# Altium integrated library Linear Technology Power Management LDO Linear Regulators.IntLib: 2339 symbols (part 4 of 131)
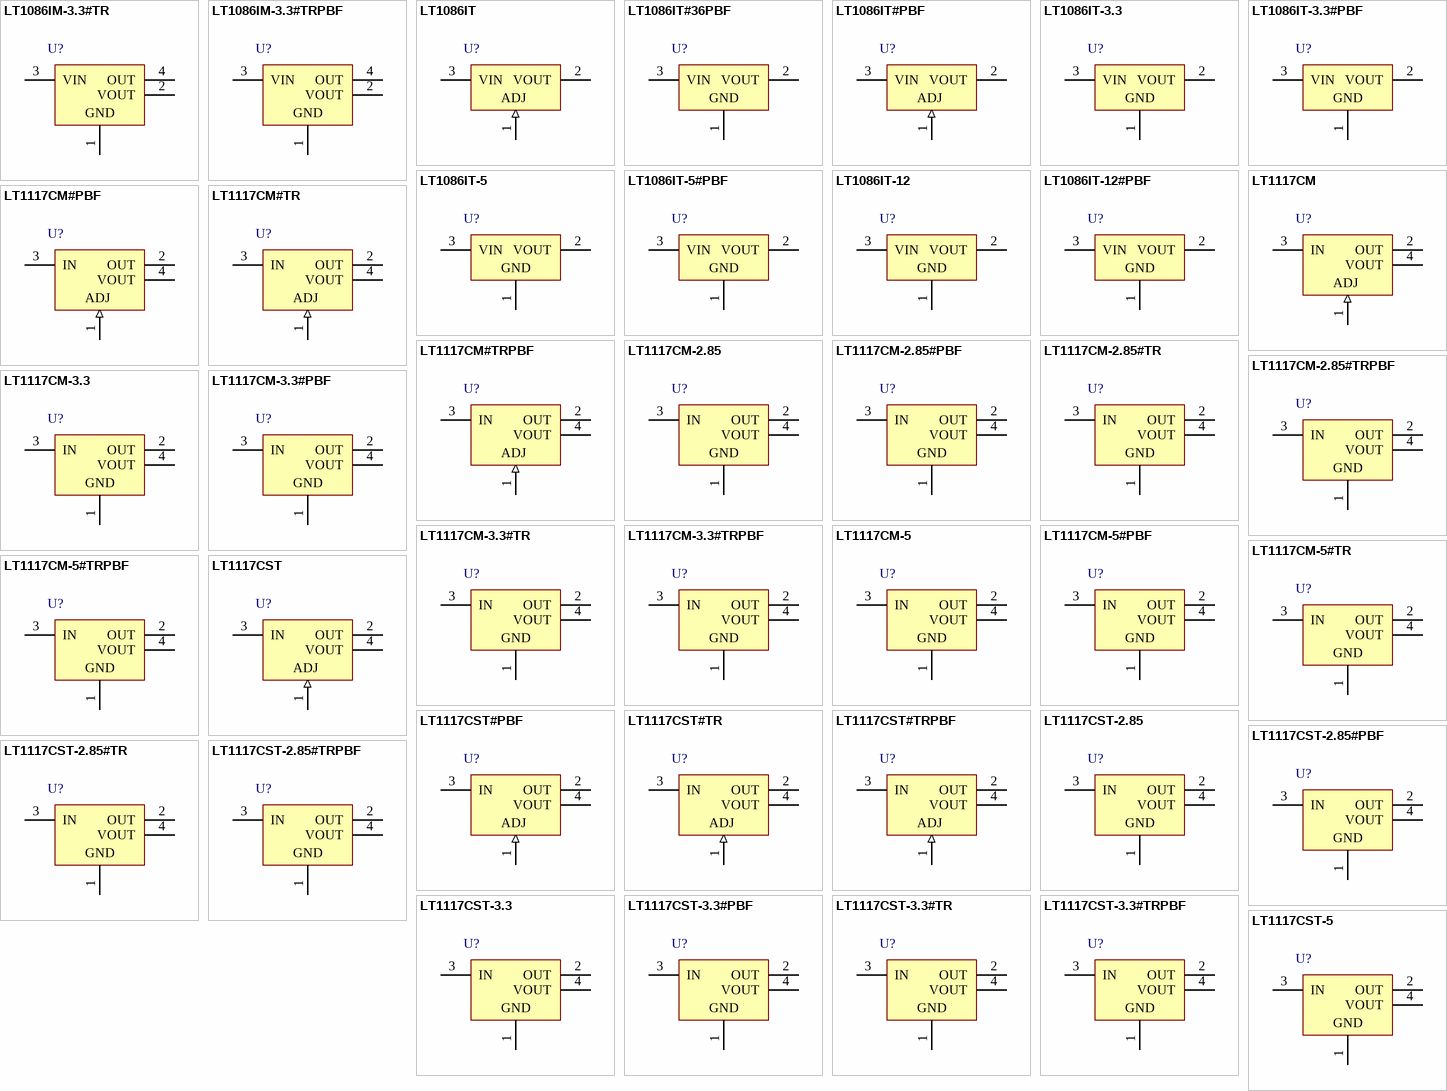
[diagram p72: symbols LT1086IM-3.3#TR to LT1117CST-5]

## LT1117CST-3.3#TR
designator U?
0.8 A Low Dropout Positive Regulator, 2.45 to 15 V Vin, 3.3 V Vout, 3-pin SOT223 (ST-3), 0 to 125 degC, Tape and Reel; Manufacturer: Linear Technology; PartNumber: LT1117CST-3.3#TR; Discrete Pass Element: no; Dropout Voltage(V): 1.1; Iout(mA): 800; Isupply(mA): 5; Number of Outputs: 1; Output Voltage: 3.3 V; PSRR(dB): 75; Vin Max(V): 15; Vin Min(V): 2.45; DatasheetVersion: Rev. D; PackageVersion: Jun-10; PackageReference: ST-3; PackageDescription: 3-Pin Plastic SOT-223, 3.505 x 6.505 mm Body, Pitch 2.3 mm; Supplier 1: Digi-Key; Supplier Part Number 1: LT1117CST-3.3#TR-ND; Supplier 2: Newark; Supplier Part Number 2: 57M1799; Packing: Tape and Reel; RoHS: FALSE; Mounting Technology: Surface Mount; ComponentLink1Description: Manufacturer URL; ComponentLink1URL: http://www.linear.com/; ComponentLink2Description: Datasheet; ComponentLink2URL: http://cds.linear.com/docs/en/datasheet/1117fd.pdf; ComponentLink3Description: Package Specification; ComponentLink3URL: http://cds.linear.com/docs/en/packaging/SOT_3_05-08-1630.pdf
footprint LT-ST-3-SOT-223_N (SOT223, 4-Leads, Body 6.505x3.505mm, Pitch 2.3mm, IPC Medium Density)
footprint LT-ST-3-SOT-223_L (SOT223, 4-Leads, Body 6.505x3.505mm, Pitch 2.3mm, IPC High Density)
footprint LT-ST-3-SOT-223_M (SOT223, 4-Leads, Body 6.505x3.505mm, Pitch 2.3mm, IPC Low Density)
pins: 1 GND (power), 2 OUT (power), 3 IN (power), 4 VOUT (power)

## LT1117CST-3.3#TRPBF
designator U?
0.8 A Low Dropout Positive Regulator, 2.45 to 15 V Vin, 3.3 V Vout, 3-pin SOT223 (ST-3), 0 to 125 degC, Pb-Free, Tape and Reel; Manufacturer: Linear Technology; PartNumber: LT1117CST-3.3#TRPBF; Discrete Pass Element: no; Dropout Voltage(V): 1.1; Iout(mA): 800; Isupply(mA): 5; Number of Outputs: 1; Output Voltage: 3.3 V; PSRR(dB): 75; Vin Max(V): 15; Vin Min(V): 2.45; DatasheetVersion: Rev. D; PackageVersion: Jun-10; PackageReference: ST-3; PackageDescription: 3-Pin Plastic SOT-223, 3.505 x 6.505 mm Body, Pitch 2.3 mm; Supplier 1: Digi-Key; Supplier Part Number 1: LT1117CST-3.3#TRPBF-ND; Supplier 2: Newark; Supplier Part Number 2: 57M1800; Packing: Tape and Reel; RoHS: TRUE; Mounting Technology: Surface Mount; ComponentLink1Description: Manufacturer URL; ComponentLink1URL: http://www.linear.com/; ComponentLink2Description: Datasheet; ComponentLink2URL: http://cds.linear.com/docs/en/datasheet/1117fd.pdf; ComponentLink3Description: Package Specification; ComponentLink3URL: http://cds.linear.com/docs/en/packaging/SOT_3_05-08-1630.pdf
footprint LT-ST-3-SOT-223_N (SOT223, 4-Leads, Body 6.505x3.505mm, Pitch 2.3mm, IPC Medium Density)
footprint LT-ST-3-SOT-223_L (SOT223, 4-Leads, Body 6.505x3.505mm, Pitch 2.3mm, IPC High Density)
footprint LT-ST-3-SOT-223_M (SOT223, 4-Leads, Body 6.505x3.505mm, Pitch 2.3mm, IPC Low Density)
pins: 1 GND (power), 2 OUT (power), 3 IN (power), 4 VOUT (power)

## LT1117CST-5
designator U?
0.8 A Low Dropout Positive Regulator, 2.45 to 15 V Vin, 5 V Vout, 3-pin SOT223 (ST-3), 0 to 125 degC; Manufacturer: Linear Technology; PartNumber: LT1117CST-5; Discrete Pass Element: no; Dropout Voltage(V): 1.1; Iout(mA): 800; Isupply(mA): 5; Number of Outputs: 1; Output Voltage: 5 V; PSRR(dB): 75; Vin Max(V): 15; Vin Min(V): 2.45; DatasheetVersion: Rev. D; PackageVersion: Jun-10; PackageReference: ST-3; PackageDescription: 3-Pin Plastic SOT-223, 3.505 x 6.505 mm Body, Pitch 2.3 mm; Supplier 1: Digi-Key; Supplier Part Number 1: LT1117CST-5-ND; Supplier 2: Newark; Supplier Part Number 2: 57M1801; RoHS: FALSE; Mounting Technology: Surface Mount; ComponentLink1Description: Manufacturer URL; ComponentLink1URL: http://www.linear.com/; ComponentLink2Description: Datasheet; ComponentLink2URL: http://cds.linear.com/docs/en/datasheet/1117fd.pdf; ComponentLink3Description: Package Specification; ComponentLink3URL: http://cds.linear.com/docs/en/packaging/SOT_3_05-08-1630.pdf
footprint LT-ST-3-SOT-223_N (SOT223, 4-Leads, Body 6.505x3.505mm, Pitch 2.3mm, IPC Medium Density)
footprint LT-ST-3-SOT-223_L (SOT223, 4-Leads, Body 6.505x3.505mm, Pitch 2.3mm, IPC High Density)
footprint LT-ST-3-SOT-223_M (SOT223, 4-Leads, Body 6.505x3.505mm, Pitch 2.3mm, IPC Low Density)
pins: 1 GND (power), 2 OUT (power), 3 IN (power), 4 VOUT (power)

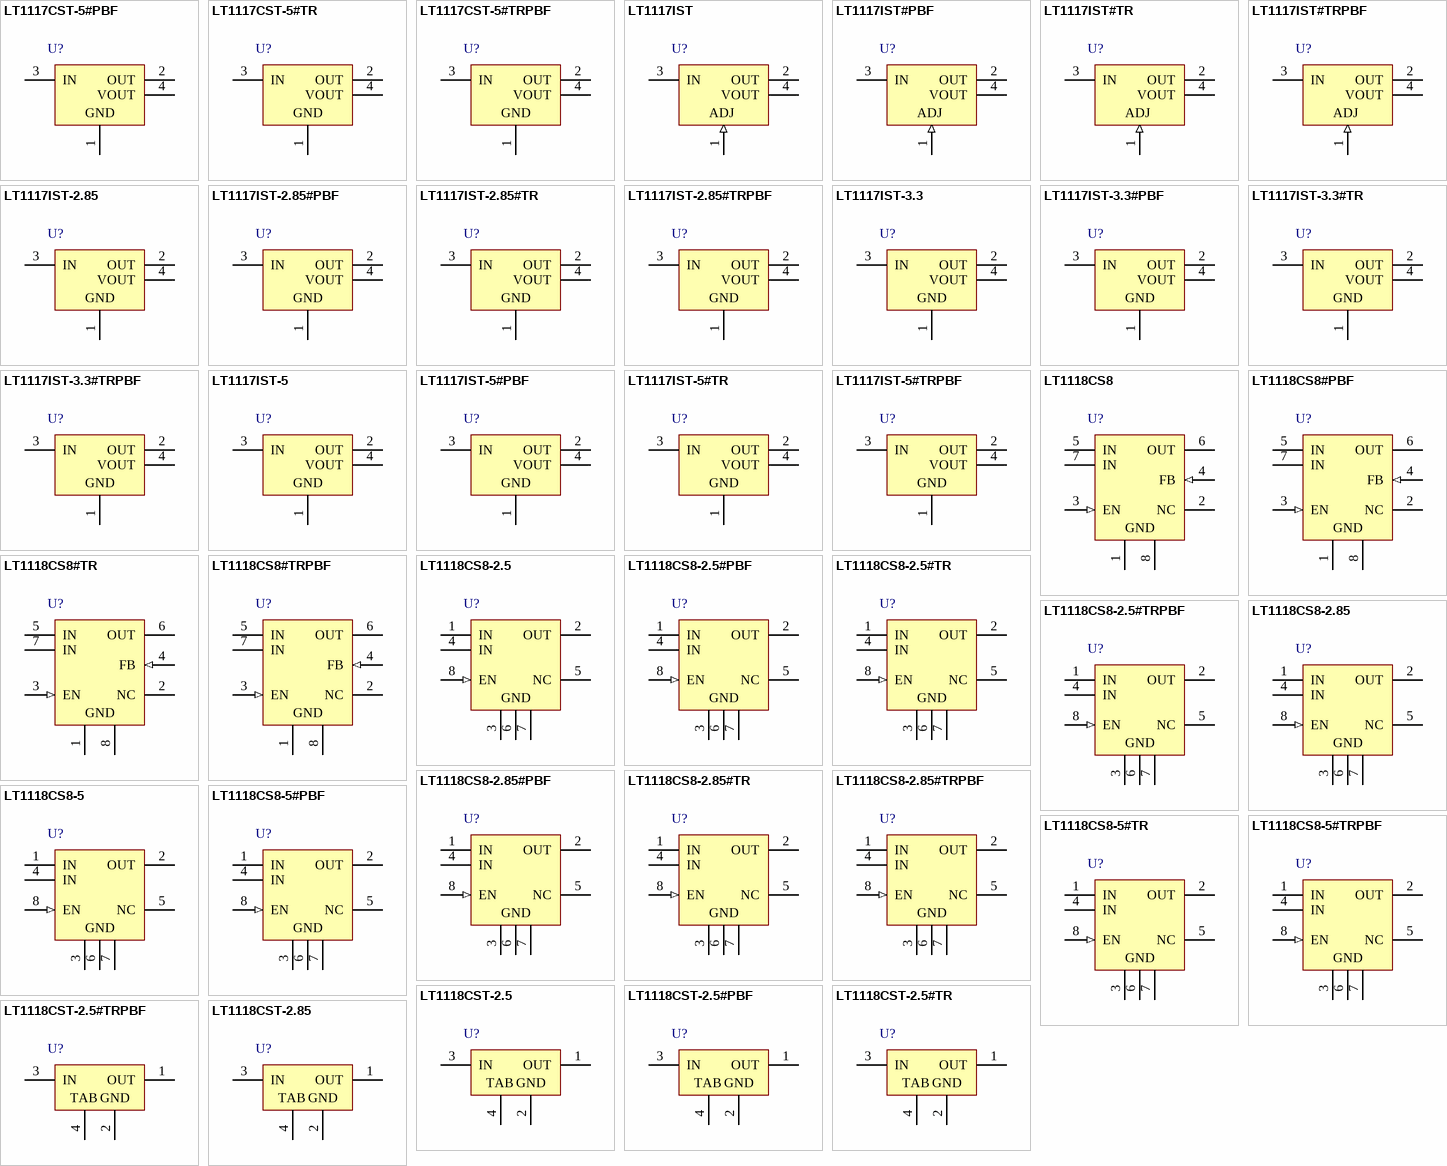
[diagram p3: symbols LT1117CST-5#PBF to LT1118CST-2.85]

## LT1117CST-5#PBF
designator U?
0.8 A Low Dropout Positive Regulator, 2.45 to 15 V Vin, 5 V Vout, 3-pin SOT223 (ST-3), 0 to 125 degC, Pb-Free; Manufacturer: Linear Technology; PartNumber: LT1117CST-5#PBF; Discrete Pass Element: no; Dropout Voltage(V): 1.1; Iout(mA): 800; Isupply(mA): 5; Number of Outputs: 1; Output Voltage: 5 V; PSRR(dB): 75; Vin Max(V): 15; Vin Min(V): 2.45; DatasheetVersion: Rev. D; PackageVersion: Jun-10; PackageReference: ST-3; PackageDescription: 3-Pin Plastic SOT-223, 3.505 x 6.505 mm Body, Pitch 2.3 mm; Supplier 1: Digi-Key; Supplier Part Number 1: LT1117CST-5#PBF-ND; Supplier 2: Farnell; Supplier Part Number 2: 1663357; Supplier 3: Newark; Supplier Part Number 3: 57M1802; RoHS: TRUE; Mounting Technology: Surface Mount; ComponentLink1Description: Manufacturer URL; ComponentLink1URL: http://www.linear.com/; ComponentLink2Description: Datasheet; ComponentLink2URL: http://cds.linear.com/docs/en/datasheet/1117fd.pdf; ComponentLink3Description: Package Specification; ComponentLink3URL: http://cds.linear.com/docs/en/packaging/SOT_3_05-08-1630.pdf
footprint LT-ST-3-SOT-223_N (SOT223, 4-Leads, Body 6.505x3.505mm, Pitch 2.3mm, IPC Medium Density)
footprint LT-ST-3-SOT-223_L (SOT223, 4-Leads, Body 6.505x3.505mm, Pitch 2.3mm, IPC High Density)
footprint LT-ST-3-SOT-223_M (SOT223, 4-Leads, Body 6.505x3.505mm, Pitch 2.3mm, IPC Low Density)
pins: 1 GND (power), 2 OUT (power), 3 IN (power), 4 VOUT (power)

## LT1117CST-5#TR
designator U?
0.8 A Low Dropout Positive Regulator, 2.45 to 15 V Vin, 5 V Vout, 3-pin SOT223 (ST-3), 0 to 125 degC, Tape and Reel; Manufacturer: Linear Technology; PartNumber: LT1117CST-5#TR; Discrete Pass Element: no; Dropout Voltage(V): 1.1; Iout(mA): 800; Isupply(mA): 5; Number of Outputs: 1; Output Voltage: 5 V; PSRR(dB): 75; Vin Max(V): 15; Vin Min(V): 2.45; DatasheetVersion: Rev. D; PackageVersion: Jun-10; PackageReference: ST-3; PackageDescription: 3-Pin Plastic SOT-223, 3.505 x 6.505 mm Body, Pitch 2.3 mm; Supplier 1: Digi-Key; Supplier Part Number 1: LT1117CST-5#TR-ND; Supplier 2: Newark; Supplier Part Number 2: 57M1803; Packing: Tape and Reel; RoHS: FALSE; Mounting Technology: Surface Mount; ComponentLink1Description: Manufacturer URL; ComponentLink1URL: http://www.linear.com/; ComponentLink2Description: Datasheet; ComponentLink2URL: http://cds.linear.com/docs/en/datasheet/1117fd.pdf; ComponentLink3Description: Package Specification; ComponentLink3URL: http://cds.linear.com/docs/en/packaging/SOT_3_05-08-1630.pdf
footprint LT-ST-3-SOT-223_N (SOT223, 4-Leads, Body 6.505x3.505mm, Pitch 2.3mm, IPC Medium Density)
footprint LT-ST-3-SOT-223_L (SOT223, 4-Leads, Body 6.505x3.505mm, Pitch 2.3mm, IPC High Density)
footprint LT-ST-3-SOT-223_M (SOT223, 4-Leads, Body 6.505x3.505mm, Pitch 2.3mm, IPC Low Density)
pins: 1 GND (power), 2 OUT (power), 3 IN (power), 4 VOUT (power)

## LT1117CST-5#TRPBF
designator U?
0.8 A Low Dropout Positive Regulator, 2.45 to 15 V Vin, 5 V Vout, 3-pin SOT223 (ST-3), 0 to 125 degC, Pb-Free, Tape and Reel; Manufacturer: Linear Technology; PartNumber: LT1117CST-5#TRPBF; Discrete Pass Element: no; Dropout Voltage(V): 1.1; Iout(mA): 800; Isupply(mA): 5; Number of Outputs: 1; Output Voltage: 5 V; PSRR(dB): 75; Vin Max(V): 15; Vin Min(V): 2.45; DatasheetVersion: Rev. D; PackageVersion: Jun-10; PackageReference: ST-3; PackageDescription: 3-Pin Plastic SOT-223, 3.505 x 6.505 mm Body, Pitch 2.3 mm; Supplier 1: Digi-Key; Supplier Part Number 1: LT1117CST-5#TRPBF-ND; Supplier 2: Newark; Supplier Part Number 2: 57M1804; Packing: Tape and Reel; RoHS: TRUE; Mounting Technology: Surface Mount; ComponentLink1Description: Manufacturer URL; ComponentLink1URL: http://www.linear.com/; ComponentLink2Description: Datasheet; ComponentLink2URL: http://cds.linear.com/docs/en/datasheet/1117fd.pdf; ComponentLink3Description: Package Specification; ComponentLink3URL: http://cds.linear.com/docs/en/packaging/SOT_3_05-08-1630.pdf
footprint LT-ST-3-SOT-223_N (SOT223, 4-Leads, Body 6.505x3.505mm, Pitch 2.3mm, IPC Medium Density)
footprint LT-ST-3-SOT-223_L (SOT223, 4-Leads, Body 6.505x3.505mm, Pitch 2.3mm, IPC High Density)
footprint LT-ST-3-SOT-223_M (SOT223, 4-Leads, Body 6.505x3.505mm, Pitch 2.3mm, IPC Low Density)
pins: 1 GND (power), 2 OUT (power), 3 IN (power), 4 VOUT (power)

## LT1117IST
designator U?
0.8 A Low Dropout Positive Regulator, 2.45 to 15 V Vin, Adjustable Vout, 3-pin SOT223 (ST-3), -40 to 125 degC; Manufacturer: Linear Technology; PartNumber: LT1117IST; Discrete Pass Element: no; Dropout Voltage(V): 1.1; Iout(mA): 800; Number of Outputs: 1; Output Voltage: Adj; PSRR(dB): 75; Vin Max(V): 15; Vin Min(V): 2.45; DatasheetVersion: Rev. D; PackageVersion: Jun-10; PackageReference: ST-3; PackageDescription: 3-Pin Plastic SOT-223, 3.505 x 6.505 mm Body, Pitch 2.3 mm; Supplier 1: Digi-Key; Supplier Part Number 1: LT1117IST-ND; Supplier 2: Newark; Supplier Part Number 2: 57M1808; RoHS: FALSE; Mounting Technology: Surface Mount; ComponentLink1Description: Manufacturer URL; ComponentLink1URL: http://www.linear.com/; ComponentLink2Description: Datasheet; ComponentLink2URL: http://cds.linear.com/docs/en/datasheet/1117fd.pdf; ComponentLink3Description: Package Specification; ComponentLink3URL: http://cds.linear.com/docs/en/packaging/SOT_3_05-08-1630.pdf
footprint LT-ST-3-SOT-223_N (SOT223, 4-Leads, Body 6.505x3.505mm, Pitch 2.3mm, IPC Medium Density)
footprint LT-ST-3-SOT-223_L (SOT223, 4-Leads, Body 6.505x3.505mm, Pitch 2.3mm, IPC High Density)
footprint LT-ST-3-SOT-223_M (SOT223, 4-Leads, Body 6.505x3.505mm, Pitch 2.3mm, IPC Low Density)
pins: 1 ADJ (in), 2 OUT (power), 3 IN (power), 4 VOUT (power)

## LT1117IST#PBF
designator U?
0.8 A Low Dropout Positive Regulator, 2.45 to 15 V Vin, Adjustable Vout, 3-pin SOT223 (ST-3), -40 to 125 degC, Pb-Free; Manufacturer: Linear Technology; PartNumber: LT1117IST#PBF; Discrete Pass Element: no; Dropout Voltage(V): 1.1; Iout(mA): 800; Number of Outputs: 1; Output Voltage: Adj; PSRR(dB): 75; Vin Max(V): 15; Vin Min(V): 2.45; DatasheetVersion: Rev. D; PackageVersion: Jun-10; PackageReference: ST-3; PackageDescription: 3-Pin Plastic SOT-223, 3.505 x 6.505 mm Body, Pitch 2.3 mm; Supplier 1: Digi-Key; Supplier Part Number 1: LT1117IST#PBF-ND; Supplier 2: Farnell; Supplier Part Number 2: 2295197; Supplier 3: Newark; Supplier Part Number 3: 57M1821; RoHS: TRUE; Mounting Technology: Surface Mount; ComponentLink1Description: Manufacturer URL; ComponentLink1URL: http://www.linear.com/; ComponentLink2Description: Datasheet; ComponentLink2URL: http://cds.linear.com/docs/en/datasheet/1117fd.pdf; ComponentLink3Description: Package Specification; ComponentLink3URL: http://cds.linear.com/docs/en/packaging/SOT_3_05-08-1630.pdf
footprint LT-ST-3-SOT-223_N (SOT223, 4-Leads, Body 6.505x3.505mm, Pitch 2.3mm, IPC Medium Density)
footprint LT-ST-3-SOT-223_L (SOT223, 4-Leads, Body 6.505x3.505mm, Pitch 2.3mm, IPC High Density)
footprint LT-ST-3-SOT-223_M (SOT223, 4-Leads, Body 6.505x3.505mm, Pitch 2.3mm, IPC Low Density)
pins: 1 ADJ (in), 2 OUT (power), 3 IN (power), 4 VOUT (power)

## LT1117IST#TR
designator U?
0.8 A Low Dropout Positive Regulator, 2.45 to 15 V Vin, Adjustable Vout, 3-pin SOT223 (ST-3), -40 to 125 degC, Tape and Reel; Manufacturer: Linear Technology; PartNumber: LT1117IST#TR; Discrete Pass Element: no; Dropout Voltage(V): 1.1; Iout(mA): 800; Number of Outputs: 1; Output Voltage: Adj; PSRR(dB): 75; Vin Max(V): 15; Vin Min(V): 2.45; DatasheetVersion: Rev. D; PackageVersion: Jun-10; PackageReference: ST-3; PackageDescription: 3-Pin Plastic SOT-223, 3.505 x 6.505 mm Body, Pitch 2.3 mm; Supplier 1: Digi-Key; Supplier Part Number 1: LT1117IST#TR-ND; Packing: Tape and Reel; RoHS: FALSE; Mounting Technology: Surface Mount; ComponentLink1Description: Manufacturer URL; ComponentLink1URL: http://www.linear.com/; ComponentLink2Description: Datasheet; ComponentLink2URL: http://cds.linear.com/docs/en/datasheet/1117fd.pdf; ComponentLink3Description: Package Specification; ComponentLink3URL: http://cds.linear.com/docs/en/packaging/SOT_3_05-08-1630.pdf
footprint LT-ST-3-SOT-223_N (SOT223, 4-Leads, Body 6.505x3.505mm, Pitch 2.3mm, IPC Medium Density)
footprint LT-ST-3-SOT-223_L (SOT223, 4-Leads, Body 6.505x3.505mm, Pitch 2.3mm, IPC High Density)
footprint LT-ST-3-SOT-223_M (SOT223, 4-Leads, Body 6.505x3.505mm, Pitch 2.3mm, IPC Low Density)
pins: 1 ADJ (in), 2 OUT (power), 3 IN (power), 4 VOUT (power)

## LT1117IST#TRPBF
designator U?
0.8 A Low Dropout Positive Regulator, 2.45 to 15 V Vin, Adjustable Vout, 3-pin SOT223 (ST-3), -40 to 125 degC, Pb-Free, Tape and Reel; Manufacturer: Linear Technology; PartNumber: LT1117IST#TRPBF; Discrete Pass Element: no; Dropout Voltage(V): 1.1; Iout(mA): 800; Number of Outputs: 1; Output Voltage: Adj; PSRR(dB): 75; Vin Max(V): 15; Vin Min(V): 2.45; DatasheetVersion: Rev. D; PackageVersion: Jun-10; PackageReference: ST-3; PackageDescription: 3-Pin Plastic SOT-223, 3.505 x 6.505 mm Body, Pitch 2.3 mm; Supplier 1: Digi-Key; Supplier Part Number 1: LT1117IST#TRPBF-ND; Supplier 2: Newark; Supplier Part Number 2: 57M1823; Packing: Tape and Reel; RoHS: TRUE; Mounting Technology: Surface Mount; ComponentLink1Description: Manufacturer URL; ComponentLink1URL: http://www.linear.com/; ComponentLink2Description: Datasheet; ComponentLink2URL: http://cds.linear.com/docs/en/datasheet/1117fd.pdf; ComponentLink3Description: Package Specification; ComponentLink3URL: http://cds.linear.com/docs/en/packaging/SOT_3_05-08-1630.pdf
footprint LT-ST-3-SOT-223_N (SOT223, 4-Leads, Body 6.505x3.505mm, Pitch 2.3mm, IPC Medium Density)
footprint LT-ST-3-SOT-223_L (SOT223, 4-Leads, Body 6.505x3.505mm, Pitch 2.3mm, IPC High Density)
footprint LT-ST-3-SOT-223_M (SOT223, 4-Leads, Body 6.505x3.505mm, Pitch 2.3mm, IPC Low Density)
pins: 1 ADJ (in), 2 OUT (power), 3 IN (power), 4 VOUT (power)

## LT1117IST-2.85
designator U?
0.8 A Low Dropout Positive Regulator, 2.45 to 15 V Vin, 2.85 V Vout, 3-pin SOT223 (ST-3), -40 to 125 degC; Manufacturer: Linear Technology; PartNumber: LT1117IST-2.85; Discrete Pass Element: no; Dropout Voltage(V): 1.1; Iout(mA): 800; Isupply(mA): 5; Number of Outputs: 1; Output Voltage: 2.85 V; PSRR(dB): 75; Vin Max(V): 15; Vin Min(V): 2.45; DatasheetVersion: Rev. D; PackageVersion: Jun-10; PackageReference: ST-3; PackageDescription: 3-Pin Plastic SOT-223, 3.505 x 6.505 mm Body, Pitch 2.3 mm; Supplier 1: Digi-Key; Supplier Part Number 1: LT1117IST-2.85-ND; RoHS: FALSE; Mounting Technology: Surface Mount; ComponentLink1Description: Manufacturer URL; ComponentLink1URL: http://www.linear.com/; ComponentLink2Description: Datasheet; ComponentLink2URL: http://cds.linear.com/docs/en/datasheet/1117fd.pdf; ComponentLink3Description: Package Specification; ComponentLink3URL: http://cds.linear.com/docs/en/packaging/SOT_3_05-08-1630.pdf
footprint LT-ST-3-SOT-223_N (SOT223, 4-Leads, Body 6.505x3.505mm, Pitch 2.3mm, IPC Medium Density)
footprint LT-ST-3-SOT-223_L (SOT223, 4-Leads, Body 6.505x3.505mm, Pitch 2.3mm, IPC High Density)
footprint LT-ST-3-SOT-223_M (SOT223, 4-Leads, Body 6.505x3.505mm, Pitch 2.3mm, IPC Low Density)
pins: 1 GND (power), 2 OUT (power), 3 IN (power), 4 VOUT (power)

## LT1117IST-2.85#PBF
designator U?
0.8 A Low Dropout Positive Regulator, 2.45 to 15 V Vin, 2.85 V Vout, 3-pin SOT223 (ST-3), -40 to 125 degC, Pb-Free; Manufacturer: Linear Technology; PartNumber: LT1117IST-2.85#PBF; Discrete Pass Element: no; Dropout Voltage(V): 1.1; Iout(mA): 800; Isupply(mA): 5; Number of Outputs: 1; Output Voltage: 2.85 V; PSRR(dB): 75; Vin Max(V): 15; Vin Min(V): 2.45; DatasheetVersion: Rev. D; PackageVersion: Jun-10; PackageReference: ST-3; PackageDescription: 3-Pin Plastic SOT-223, 3.505 x 6.505 mm Body, Pitch 2.3 mm; Supplier 1: Digi-Key; Supplier Part Number 1: LT1117IST-2.85#PBF-ND; RoHS: TRUE; Mounting Technology: Surface Mount; ComponentLink1Description: Manufacturer URL; ComponentLink1URL: http://www.linear.com/; ComponentLink2Description: Datasheet; ComponentLink2URL: http://cds.linear.com/docs/en/datasheet/1117fd.pdf; ComponentLink3Description: Package Specification; ComponentLink3URL: http://cds.linear.com/docs/en/packaging/SOT_3_05-08-1630.pdf
footprint LT-ST-3-SOT-223_N (SOT223, 4-Leads, Body 6.505x3.505mm, Pitch 2.3mm, IPC Medium Density)
footprint LT-ST-3-SOT-223_L (SOT223, 4-Leads, Body 6.505x3.505mm, Pitch 2.3mm, IPC High Density)
footprint LT-ST-3-SOT-223_M (SOT223, 4-Leads, Body 6.505x3.505mm, Pitch 2.3mm, IPC Low Density)
pins: 1 GND (power), 2 OUT (power), 3 IN (power), 4 VOUT (power)

## LT1117IST-2.85#TR
designator U?
0.8 A Low Dropout Positive Regulator, 2.45 to 15 V Vin, 2.85 V Vout, 3-pin SOT223 (ST-3), -40 to 125 degC, Tape and Reel; Manufacturer: Linear Technology; PartNumber: LT1117IST-2.85#TR; Discrete Pass Element: no; Dropout Voltage(V): 1.1; Iout(mA): 800; Isupply(mA): 5; Number of Outputs: 1; Output Voltage: 2.85 V; PSRR(dB): 75; Vin Max(V): 15; Vin Min(V): 2.45; DatasheetVersion: Rev. D; PackageVersion: Jun-10; PackageReference: ST-3; PackageDescription: 3-Pin Plastic SOT-223, 3.505 x 6.505 mm Body, Pitch 2.3 mm; Supplier 1: Digi-Key; Supplier Part Number 1: LT1117IST-2.85#TR-ND; Packing: Tape and Reel; RoHS: FALSE; Mounting Technology: Surface Mount; ComponentLink1Description: Manufacturer URL; ComponentLink1URL: http://www.linear.com/; ComponentLink2Description: Datasheet; ComponentLink2URL: http://cds.linear.com/docs/en/datasheet/1117fd.pdf; ComponentLink3Description: Package Specification; ComponentLink3URL: http://cds.linear.com/docs/en/packaging/SOT_3_05-08-1630.pdf
footprint LT-ST-3-SOT-223_N (SOT223, 4-Leads, Body 6.505x3.505mm, Pitch 2.3mm, IPC Medium Density)
footprint LT-ST-3-SOT-223_L (SOT223, 4-Leads, Body 6.505x3.505mm, Pitch 2.3mm, IPC High Density)
footprint LT-ST-3-SOT-223_M (SOT223, 4-Leads, Body 6.505x3.505mm, Pitch 2.3mm, IPC Low Density)
pins: 1 GND (power), 2 OUT (power), 3 IN (power), 4 VOUT (power)

## LT1117IST-2.85#TRPBF
designator U?
0.8 A Low Dropout Positive Regulator, 2.45 to 15 V Vin, 2.85 V Vout, 3-pin SOT223 (ST-3), -40 to 125 degC, Pb-Free, Tape and Reel; Manufacturer: Linear Technology; PartNumber: LT1117IST-2.85#TRPBF; Discrete Pass Element: no; Dropout Voltage(V): 1.1; Iout(mA): 800; Isupply(mA): 5; Number of Outputs: 1; Output Voltage: 2.85 V; PSRR(dB): 75; Vin Max(V): 15; Vin Min(V): 2.45; DatasheetVersion: Rev. D; PackageVersion: Jun-10; PackageReference: ST-3; PackageDescription: 3-Pin Plastic SOT-223, 3.505 x 6.505 mm Body, Pitch 2.3 mm; Supplier 1: Digi-Key; Supplier Part Number 1: LT1117IST-2.85#TRPBF-ND; Packing: Tape and Reel; RoHS: TRUE; Mounting Technology: Surface Mount; ComponentLink1Description: Manufacturer URL; ComponentLink1URL: http://www.linear.com/; ComponentLink2Description: Datasheet; ComponentLink2URL: http://cds.linear.com/docs/en/datasheet/1117fd.pdf; ComponentLink3Description: Package Specification; ComponentLink3URL: http://cds.linear.com/docs/en/packaging/SOT_3_05-08-1630.pdf
footprint LT-ST-3-SOT-223_N (SOT223, 4-Leads, Body 6.505x3.505mm, Pitch 2.3mm, IPC Medium Density)
footprint LT-ST-3-SOT-223_L (SOT223, 4-Leads, Body 6.505x3.505mm, Pitch 2.3mm, IPC High Density)
footprint LT-ST-3-SOT-223_M (SOT223, 4-Leads, Body 6.505x3.505mm, Pitch 2.3mm, IPC Low Density)
pins: 1 GND (power), 2 OUT (power), 3 IN (power), 4 VOUT (power)

## LT1117IST-3.3
designator U?
0.8 A Low Dropout Positive Regulator, 2.45 to 15 V Vin, 3.3 V Vout, 3-pin SOT223 (ST-3), -40 to 125 degC; Manufacturer: Linear Technology; PartNumber: LT1117IST-3.3; Discrete Pass Element: no; Dropout Voltage(V): 1.1; Iout(mA): 800; Isupply(mA): 5; Number of Outputs: 1; Output Voltage: 3.3 V; PSRR(dB): 75; Vin Max(V): 15; Vin Min(V): 2.45; DatasheetVersion: Rev. D; PackageVersion: Jun-10; PackageReference: ST-3; PackageDescription: 3-Pin Plastic SOT-223, 3.505 x 6.505 mm Body, Pitch 2.3 mm; Supplier 1: Digi-Key; Supplier Part Number 1: LT1117IST-3.3-ND; Supplier 2: Newark; Supplier Part Number 2: 57M1813; RoHS: FALSE; Mounting Technology: Surface Mount; ComponentLink1Description: Manufacturer URL; ComponentLink1URL: http://www.linear.com/; ComponentLink2Description: Datasheet; ComponentLink2URL: http://cds.linear.com/docs/en/datasheet/1117fd.pdf; ComponentLink3Description: Package Specification; ComponentLink3URL: http://cds.linear.com/docs/en/packaging/SOT_3_05-08-1630.pdf
footprint LT-ST-3-SOT-223_N (SOT223, 4-Leads, Body 6.505x3.505mm, Pitch 2.3mm, IPC Medium Density)
footprint LT-ST-3-SOT-223_L (SOT223, 4-Leads, Body 6.505x3.505mm, Pitch 2.3mm, IPC High Density)
footprint LT-ST-3-SOT-223_M (SOT223, 4-Leads, Body 6.505x3.505mm, Pitch 2.3mm, IPC Low Density)
pins: 1 GND (power), 2 OUT (power), 3 IN (power), 4 VOUT (power)

## LT1117IST-3.3#PBF
designator U?
0.8 A Low Dropout Positive Regulator, 2.45 to 15 V Vin, 3.3 V Vout, 3-pin SOT223 (ST-3), -40 to 125 degC, Pb-Free; Manufacturer: Linear Technology; PartNumber: LT1117IST-3.3#PBF; Discrete Pass Element: no; Dropout Voltage(V): 1.1; Iout(mA): 800; Isupply(mA): 5; Number of Outputs: 1; Output Voltage: 3.3 V; PSRR(dB): 75; Vin Max(V): 15; Vin Min(V): 2.45; DatasheetVersion: Rev. D; PackageVersion: Jun-10; PackageReference: ST-3; PackageDescription: 3-Pin Plastic SOT-223, 3.505 x 6.505 mm Body, Pitch 2.3 mm; Supplier 1: Digi-Key; Supplier Part Number 1: LT1117IST-3.3#PBF-ND; Supplier 2: Farnell; Supplier Part Number 2: 2295198; Supplier 3: Newark; Supplier Part Number 3: 57M1814; RoHS: TRUE; Mounting Technology: Surface Mount; ComponentLink1Description: Manufacturer URL; ComponentLink1URL: http://www.linear.com/; ComponentLink2Description: Datasheet; ComponentLink2URL: http://cds.linear.com/docs/en/datasheet/1117fd.pdf; ComponentLink3Description: Package Specification; ComponentLink3URL: http://cds.linear.com/docs/en/packaging/SOT_3_05-08-1630.pdf
footprint LT-ST-3-SOT-223_N (SOT223, 4-Leads, Body 6.505x3.505mm, Pitch 2.3mm, IPC Medium Density)
footprint LT-ST-3-SOT-223_L (SOT223, 4-Leads, Body 6.505x3.505mm, Pitch 2.3mm, IPC High Density)
footprint LT-ST-3-SOT-223_M (SOT223, 4-Leads, Body 6.505x3.505mm, Pitch 2.3mm, IPC Low Density)
pins: 1 GND (power), 2 OUT (power), 3 IN (power), 4 VOUT (power)

## LT1117IST-3.3#TR
designator U?
0.8 A Low Dropout Positive Regulator, 2.45 to 15 V Vin, 3.3 V Vout, 3-pin SOT223 (ST-3), -40 to 125 degC, Tape and Reel; Manufacturer: Linear Technology; PartNumber: LT1117IST-3.3#TR; Discrete Pass Element: no; Dropout Voltage(V): 1.1; Iout(mA): 800; Isupply(mA): 5; Number of Outputs: 1; Output Voltage: 3.3 V; PSRR(dB): 75; Vin Max(V): 15; Vin Min(V): 2.45; DatasheetVersion: Rev. D; PackageVersion: Jun-10; PackageReference: ST-3; PackageDescription: 3-Pin Plastic SOT-223, 3.505 x 6.505 mm Body, Pitch 2.3 mm; Supplier 1: Digi-Key; Supplier Part Number 1: LT1117IST-3.3#TR-ND; Supplier 2: Newark; Supplier Part Number 2: 57M1815; Packing: Tape and Reel; RoHS: FALSE; Mounting Technology: Surface Mount; ComponentLink1Description: Manufacturer URL; ComponentLink1URL: http://www.linear.com/; ComponentLink2Description: Datasheet; ComponentLink2URL: http://cds.linear.com/docs/en/datasheet/1117fd.pdf; ComponentLink3Description: Package Specification; ComponentLink3URL: http://cds.linear.com/docs/en/packaging/SOT_3_05-08-1630.pdf
footprint LT-ST-3-SOT-223_N (SOT223, 4-Leads, Body 6.505x3.505mm, Pitch 2.3mm, IPC Medium Density)
footprint LT-ST-3-SOT-223_L (SOT223, 4-Leads, Body 6.505x3.505mm, Pitch 2.3mm, IPC High Density)
footprint LT-ST-3-SOT-223_M (SOT223, 4-Leads, Body 6.505x3.505mm, Pitch 2.3mm, IPC Low Density)
pins: 1 GND (power), 2 OUT (power), 3 IN (power), 4 VOUT (power)

## LT1117IST-3.3#TRPBF
designator U?
0.8 A Low Dropout Positive Regulator, 2.45 to 15 V Vin, 3.3 V Vout, 3-pin SOT223 (ST-3), -40 to 125 degC, Pb-Free, Tape and Reel; Manufacturer: Linear Technology; PartNumber: LT1117IST-3.3#TRPBF; Discrete Pass Element: no; Dropout Voltage(V): 1.1; Iout(mA): 800; Isupply(mA): 5; Number of Outputs: 1; Output Voltage: 3.3 V; PSRR(dB): 75; Vin Max(V): 15; Vin Min(V): 2.45; DatasheetVersion: Rev. D; PackageVersion: Jun-10; PackageReference: ST-3; PackageDescription: 3-Pin Plastic SOT-223, 3.505 x 6.505 mm Body, Pitch 2.3 mm; Supplier 1: Digi-Key; Supplier Part Number 1: LT1117IST-3.3#TRPBF-ND; Supplier 2: Newark; Supplier Part Number 2: 57M1816; Packing: Tape and Reel; RoHS: TRUE; Mounting Technology: Surface Mount; ComponentLink1Description: Manufacturer URL; ComponentLink1URL: http://www.linear.com/; ComponentLink2Description: Datasheet; ComponentLink2URL: http://cds.linear.com/docs/en/datasheet/1117fd.pdf; ComponentLink3Description: Package Specification; ComponentLink3URL: http://cds.linear.com/docs/en/packaging/SOT_3_05-08-1630.pdf
footprint LT-ST-3-SOT-223_N (SOT223, 4-Leads, Body 6.505x3.505mm, Pitch 2.3mm, IPC Medium Density)
footprint LT-ST-3-SOT-223_L (SOT223, 4-Leads, Body 6.505x3.505mm, Pitch 2.3mm, IPC High Density)
footprint LT-ST-3-SOT-223_M (SOT223, 4-Leads, Body 6.505x3.505mm, Pitch 2.3mm, IPC Low Density)
pins: 1 GND (power), 2 OUT (power), 3 IN (power), 4 VOUT (power)

## LT1117IST-5
designator U?
0.8 A Low Dropout Positive Regulator, 2.45 to 15 V Vin, 5 V Vout, 3-pin SOT223 (ST-3), -40 to 125 degC; Manufacturer: Linear Technology; PartNumber: LT1117IST-5; Discrete Pass Element: no; Dropout Voltage(V): 1.1; Iout(mA): 800; Isupply(mA): 5; Number of Outputs: 1; Output Voltage: 5 V; PSRR(dB): 75; Vin Max(V): 15; Vin Min(V): 2.45; DatasheetVersion: Rev. D; PackageVersion: Jun-10; PackageReference: ST-3; PackageDescription: 3-Pin Plastic SOT-223, 3.505 x 6.505 mm Body, Pitch 2.3 mm; Supplier 1: Digi-Key; Supplier Part Number 1: LT1117IST-5-ND; RoHS: FALSE; Mounting Technology: Surface Mount; ComponentLink1Description: Manufacturer URL; ComponentLink1URL: http://www.linear.com/; ComponentLink2Description: Datasheet; ComponentLink2URL: http://cds.linear.com/docs/en/datasheet/1117fd.pdf; ComponentLink3Description: Package Specification; ComponentLink3URL: http://cds.linear.com/docs/en/packaging/SOT_3_05-08-1630.pdf
footprint LT-ST-3-SOT-223_N (SOT223, 4-Leads, Body 6.505x3.505mm, Pitch 2.3mm, IPC Medium Density)
footprint LT-ST-3-SOT-223_L (SOT223, 4-Leads, Body 6.505x3.505mm, Pitch 2.3mm, IPC High Density)
footprint LT-ST-3-SOT-223_M (SOT223, 4-Leads, Body 6.505x3.505mm, Pitch 2.3mm, IPC Low Density)
pins: 1 GND (power), 2 OUT (power), 3 IN (power), 4 VOUT (power)

## LT1117IST-5#PBF
designator U?
0.8 A Low Dropout Positive Regulator, 2.45 to 15 V Vin, 5 V Vout, 3-pin SOT223 (ST-3), -40 to 125 degC, Pb-Free; Manufacturer: Linear Technology; PartNumber: LT1117IST-5#PBF; Discrete Pass Element: no; Dropout Voltage(V): 1.1; Iout(mA): 800; Isupply(mA): 5; Number of Outputs: 1; Output Voltage: 5 V; PSRR(dB): 75; Vin Max(V): 15; Vin Min(V): 2.45; DatasheetVersion: Rev. D; PackageVersion: Jun-10; PackageReference: ST-3; PackageDescription: 3-Pin Plastic SOT-223, 3.505 x 6.505 mm Body, Pitch 2.3 mm; Supplier 1: Digi-Key; Supplier Part Number 1: LT1117IST-5#PBF-ND; Supplier 2: Farnell; Supplier Part Number 2: 1663358; Supplier 3: Newark; Supplier Part Number 3: 57M1818; RoHS: TRUE; Mounting Technology: Surface Mount; ComponentLink1Description: Manufacturer URL; ComponentLink1URL: http://www.linear.com/; ComponentLink2Description: Datasheet; ComponentLink2URL: http://cds.linear.com/docs/en/datasheet/1117fd.pdf; ComponentLink3Description: Package Specification; ComponentLink3URL: http://cds.linear.com/docs/en/packaging/SOT_3_05-08-1630.pdf
footprint LT-ST-3-SOT-223_N (SOT223, 4-Leads, Body 6.505x3.505mm, Pitch 2.3mm, IPC Medium Density)
footprint LT-ST-3-SOT-223_L (SOT223, 4-Leads, Body 6.505x3.505mm, Pitch 2.3mm, IPC High Density)
footprint LT-ST-3-SOT-223_M (SOT223, 4-Leads, Body 6.505x3.505mm, Pitch 2.3mm, IPC Low Density)
pins: 1 GND (power), 2 OUT (power), 3 IN (power), 4 VOUT (power)

## LT1117IST-5#TR
designator U?
0.8 A Low Dropout Positive Regulator, 2.45 to 15 V Vin, 5 V Vout, 3-pin SOT223 (ST-3), -40 to 125 degC, Tape and Reel; Manufacturer: Linear Technology; PartNumber: LT1117IST-5#TR; Discrete Pass Element: no; Dropout Voltage(V): 1.1; Iout(mA): 800; Isupply(mA): 5; Number of Outputs: 1; Output Voltage: 5 V; PSRR(dB): 75; Vin Max(V): 15; Vin Min(V): 2.45; DatasheetVersion: Rev. D; PackageVersion: Jun-10; PackageReference: ST-3; PackageDescription: 3-Pin Plastic SOT-223, 3.505 x 6.505 mm Body, Pitch 2.3 mm; Supplier 1: Digi-Key; Supplier Part Number 1: LT1117IST-5#TR-ND; Packing: Tape and Reel; RoHS: FALSE; Mounting Technology: Surface Mount; ComponentLink1Description: Manufacturer URL; ComponentLink1URL: http://www.linear.com/; ComponentLink2Description: Datasheet; ComponentLink2URL: http://cds.linear.com/docs/en/datasheet/1117fd.pdf; ComponentLink3Description: Package Specification; ComponentLink3URL: http://cds.linear.com/docs/en/packaging/SOT_3_05-08-1630.pdf
footprint LT-ST-3-SOT-223_N (SOT223, 4-Leads, Body 6.505x3.505mm, Pitch 2.3mm, IPC Medium Density)
footprint LT-ST-3-SOT-223_L (SOT223, 4-Leads, Body 6.505x3.505mm, Pitch 2.3mm, IPC High Density)
footprint LT-ST-3-SOT-223_M (SOT223, 4-Leads, Body 6.505x3.505mm, Pitch 2.3mm, IPC Low Density)
pins: 1 GND (power), 2 OUT (power), 3 IN (power), 4 VOUT (power)

## LT1117IST-5#TRPBF
designator U?
0.8 A Low Dropout Positive Regulator, 2.45 to 15 V Vin, 5 V Vout, 3-pin SOT223 (ST-3), -40 to 125 degC, Pb-Free, Tape and Reel; Manufacturer: Linear Technology; PartNumber: LT1117IST-5#TRPBF; Discrete Pass Element: no; Dropout Voltage(V): 1.1; Iout(mA): 800; Isupply(mA): 5; Number of Outputs: 1; Output Voltage: 5 V; PSRR(dB): 75; Vin Max(V): 15; Vin Min(V): 2.45; DatasheetVersion: Rev. D; PackageVersion: Jun-10; PackageReference: ST-3; PackageDescription: 3-Pin Plastic SOT-223, 3.505 x 6.505 mm Body, Pitch 2.3 mm; Supplier 1: Digi-Key; Supplier Part Number 1: LT1117IST-5#TRPBF-ND; Packing: Tape and Reel; RoHS: TRUE; Mounting Technology: Surface Mount; ComponentLink1Description: Manufacturer URL; ComponentLink1URL: http://www.linear.com/; ComponentLink2Description: Datasheet; ComponentLink2URL: http://cds.linear.com/docs/en/datasheet/1117fd.pdf; ComponentLink3Description: Package Specification; ComponentLink3URL: http://cds.linear.com/docs/en/packaging/SOT_3_05-08-1630.pdf
footprint LT-ST-3-SOT-223_N (SOT223, 4-Leads, Body 6.505x3.505mm, Pitch 2.3mm, IPC Medium Density)
footprint LT-ST-3-SOT-223_L (SOT223, 4-Leads, Body 6.505x3.505mm, Pitch 2.3mm, IPC High Density)
footprint LT-ST-3-SOT-223_M (SOT223, 4-Leads, Body 6.505x3.505mm, Pitch 2.3mm, IPC Low Density)
pins: 1 GND (power), 2 OUT (power), 3 IN (power), 4 VOUT (power)

## LT1118CS8
designator U?
Low IQ, Low Dropout, 800 mA, Source and Sink Regulator, 3 to 15 V Vin, Adjustable Vout, 8-pin SOIC (S8-8), 0 to 70 degC; Manufacturer: Linear Technology; PartNumber: LT1118CS8; Discrete Pass Element: no; Dropout Voltage(V): 1; Iout(mA): 800; Isupply(mA): 0.6; Output Voltage: adj; PSRR(dB): 80; Vin Max(V): 15; Vin Min(V): 3; Vout Max(V): 6.5; Vout Min(V): 2.1; DatasheetVersion: Rev. D; PackageVersion: Rev. G, 03/2012; PackageReference: S8-8; PackageDescription: 8-Pin Plastic Small Outline (Narrow .150 Inch), Body 4.9 x 3.9 mm, Pitch 1.27 mm; Supplier 1: Digi-Key; Supplier Part Number 1: LT1118CS8-ND; Number of Outputs: 1; RoHS: FALSE; Shutdown Current(uA): 1; Mounting Technology: Surface Mount; ComponentLink1Description: Manufacturer URL; ComponentLink1URL: http://www.linear.com/; ComponentLink2Description: Datasheet; ComponentLink2URL: http://cds.linear.com/docs/en/datasheet/1118fd.pdf; ComponentLink3Description: Package Specification; ComponentLink3URL: http://cds.linear.com/docs/en/packaging/05081610_G_SO8.pdf
footprint LT-S8-8_N (SOIC, 8-Leads, Body 4.9x3.9mm, Pitch 1.27mm, IPC Medium Density)
footprint LT-S8-8_L (SOIC, 8-Leads, Body 4.9x3.9mm, Pitch 1.27mm, IPC High Density)
footprint LT-S8-8_M (SOIC, 8-Leads, Body 4.9x3.9mm, Pitch 1.27mm, IPC Low Density)
pins: 1 GND (power) "Ground Pin. The multiple GND pins on the SO-8  package are internally connected, but lowest load regulation  errors will result if these pins are tightly connected on the printed circuit board. This will also aid heat (See Datasheet)", 2 NC, 3 EN (in) "TTL/CMOS Logic Input. A high level allows normal  operation. A low level reduces supply current to zero. This  pin is internally connected to VIN on 3-lead ST packaged  devices.", 4 FB (in) "Feedback Pin. The feedback pin is used to program  the output voltage of the adjustable S8 part. The output  voltage range that can be achieved is 2.1V to 6.5V. The  output voltage is determined by the selection of feedback  (See Datasheet)", 5 IN (power) "Input Supply Pin. This pin should be decoupled with a 1uF or larger low ESR capacitor. The two IN pins on the SO-8 package must be directly connected on the printed  circuit board to prevent voltage drops between the two (See Datasheet)", 6 OUT (power) "Regulated Output Voltage. Output can source or sink current. Current limit for sourcing and sinking current is  provided to protect the device from fault conditons. The  output must have a low ESR output ?lter capacitor(See Datasheet)", 7 IN (power) "Input Supply Pin. This pin should be decoupled with a 1uF or larger low ESR capacitor. The two IN pins on the SO-8 package must be directly connected on the printed  circuit board to prevent voltage drops between the two (See Datasheet)", 8 GND (power) "Ground Pin. The multiple GND pins on the SO-8  package are internally connected, but lowest load regulation  errors will result if these pins are tightly connected on the  printed circuit board. This will also aid heat (See Datasheet)"

## LT1118CS8#PBF
designator U?
Low IQ, Low Dropout, 800 mA, Source and Sink Regulator, 3 to 15 V Vin, Adjustable Vout, 8-pin SOIC (S8-8), 0 to 70 degC, Pb-Free; Manufacturer: Linear Technology; PartNumber: LT1118CS8#PBF; Discrete Pass Element: no; Dropout Voltage(V): 1; Iout(mA): 800; Isupply(mA): 0.6; Output Voltage: adj; PSRR(dB): 80; Vin Max(V): 15; Vin Min(V): 3; Vout Max(V): 6.5; Vout Min(V): 2.1; DatasheetVersion: Rev. D; PackageVersion: Rev. G, 03/2012; PackageReference: S8-8; PackageDescription: 8-Pin Plastic Small Outline (Narrow .150 Inch), Body 4.9 x 3.9 mm, Pitch 1.27 mm; Supplier 1: Digi-Key; Supplier Part Number 1: LT1118CS8#PBF-ND; Supplier 2: Farnell; Supplier Part Number 2: 1273563; Supplier 3: Newark; Supplier Part Number 3: 57M1849; Number of Outputs: 1; RoHS: TRUE; Shutdown Current(uA): 1; Mounting Technology: Surface Mount; ComponentLink1Description: Manufacturer URL; ComponentLink1URL: http://www.linear.com/; ComponentLink2Description: Datasheet; ComponentLink2URL: http://cds.linear.com/docs/en/datasheet/1118fd.pdf; ComponentLink3Description: Package Specification; ComponentLink3URL: http://cds.linear.com/docs/en/packaging/05081610_G_SO8.pdf
footprint LT-S8-8_N (SOIC, 8-Leads, Body 4.9x3.9mm, Pitch 1.27mm, IPC Medium Density)
footprint LT-S8-8_L (SOIC, 8-Leads, Body 4.9x3.9mm, Pitch 1.27mm, IPC High Density)
footprint LT-S8-8_M (SOIC, 8-Leads, Body 4.9x3.9mm, Pitch 1.27mm, IPC Low Density)
pins: 1 GND (power) "Ground Pin. The multiple GND pins on the SO-8  package are internally connected, but lowest load regulation  errors will result if these pins are tightly connected on the printed circuit board. This will also aid heat (See Datasheet)", 2 NC, 3 EN (in) "TTL/CMOS Logic Input. A high level allows normal  operation. A low level reduces supply current to zero. This  pin is internally connected to VIN on 3-lead ST packaged  devices.", 4 FB (in) "Feedback Pin. The feedback pin is used to program  the output voltage of the adjustable S8 part. The output  voltage range that can be achieved is 2.1V to 6.5V. The  output voltage is determined by the selection of feedback  (See Datasheet)", 5 IN (power) "Input Supply Pin. This pin should be decoupled with a 1uF or larger low ESR capacitor. The two IN pins on the SO-8 package must be directly connected on the printed  circuit board to prevent voltage drops between the two (See Datasheet)", 6 OUT (power) "Regulated Output Voltage. Output can source or sink current. Current limit for sourcing and sinking current is  provided to protect the device from fault conditons. The  output must have a low ESR output ?lter capacitor(See Datasheet)", 7 IN (power) "Input Supply Pin. This pin should be decoupled with a 1uF or larger low ESR capacitor. The two IN pins on the SO-8 package must be directly connected on the printed  circuit board to prevent voltage drops between the two (See Datasheet)", 8 GND (power) "Ground Pin. The multiple GND pins on the SO-8  package are internally connected, but lowest load regulation  errors will result if these pins are tightly connected on the  printed circuit board. This will also aid heat (See Datasheet)"

## LT1118CS8#TR
designator U?
Low IQ, Low Dropout, 800 mA, Source and Sink Regulator, 3 to 15 V Vin, Adjustable Vout, 8-pin SOIC (S8-8), 0 to 70 degC, Tape and Reel; Manufacturer: Linear Technology; PartNumber: LT1118CS8#TR; Discrete Pass Element: no; Dropout Voltage(V): 1; Iout(mA): 800; Isupply(mA): 0.6; Output Voltage: adj; PSRR(dB): 80; Vin Max(V): 15; Vin Min(V): 3; Vout Max(V): 6.5; Vout Min(V): 2.1; DatasheetVersion: Rev. D; PackageVersion: Rev. G, 03/2012; PackageReference: S8-8; PackageDescription: 8-Pin Plastic Small Outline (Narrow .150 Inch), Body 4.9 x 3.9 mm, Pitch 1.27 mm; Supplier 1: Digi-Key; Supplier Part Number 1: LT1118CS8#TR-ND; Number of Outputs: 1; Packing: Tape and Reel; RoHS: FALSE; Shutdown Current(uA): 1; Mounting Technology: Surface Mount; ComponentLink1Description: Manufacturer URL; ComponentLink1URL: http://www.linear.com/; ComponentLink2Description: Datasheet; ComponentLink2URL: http://cds.linear.com/docs/en/datasheet/1118fd.pdf; ComponentLink3Description: Package Specification; ComponentLink3URL: http://cds.linear.com/docs/en/packaging/05081610_G_SO8.pdf
footprint LT-S8-8_N (SOIC, 8-Leads, Body 4.9x3.9mm, Pitch 1.27mm, IPC Medium Density)
footprint LT-S8-8_L (SOIC, 8-Leads, Body 4.9x3.9mm, Pitch 1.27mm, IPC High Density)
footprint LT-S8-8_M (SOIC, 8-Leads, Body 4.9x3.9mm, Pitch 1.27mm, IPC Low Density)
pins: 1 GND (power) "Ground Pin. The multiple GND pins on the SO-8  package are internally connected, but lowest load regulation  errors will result if these pins are tightly connected on the printed circuit board. This will also aid heat (See Datasheet)", 2 NC, 3 EN (in) "TTL/CMOS Logic Input. A high level allows normal  operation. A low level reduces supply current to zero. This  pin is internally connected to VIN on 3-lead ST packaged  devices.", 4 FB (in) "Feedback Pin. The feedback pin is used to program  the output voltage of the adjustable S8 part. The output  voltage range that can be achieved is 2.1V to 6.5V. The  output voltage is determined by the selection of feedback  (See Datasheet)", 5 IN (power) "Input Supply Pin. This pin should be decoupled with a 1uF or larger low ESR capacitor. The two IN pins on the SO-8 package must be directly connected on the printed  circuit board to prevent voltage drops between the two (See Datasheet)", 6 OUT (power) "Regulated Output Voltage. Output can source or sink current. Current limit for sourcing and sinking current is  provided to protect the device from fault conditons. The  output must have a low ESR output ?lter capacitor(See Datasheet)", 7 IN (power) "Input Supply Pin. This pin should be decoupled with a 1uF or larger low ESR capacitor. The two IN pins on the SO-8 package must be directly connected on the printed  circuit board to prevent voltage drops between the two (See Datasheet)", 8 GND (power) "Ground Pin. The multiple GND pins on the SO-8  package are internally connected, but lowest load regulation  errors will result if these pins are tightly connected on the  printed circuit board. This will also aid heat (See Datasheet)"

## LT1118CS8#TRPBF
designator U?
Low IQ, Low Dropout, 800 mA, Source and Sink Regulator, 3 to 15 V Vin, Adjustable Vout, 8-pin SOIC (S8-8), 0 to 70 degC, Pb-Free, Tape and Reel; Manufacturer: Linear Technology; PartNumber: LT1118CS8#TRPBF; Discrete Pass Element: no; Dropout Voltage(V): 1; Iout(mA): 800; Isupply(mA): 0.6; Output Voltage: adj; PSRR(dB): 80; Vin Max(V): 15; Vin Min(V): 3; Vout Max(V): 6.5; Vout Min(V): 2.1; DatasheetVersion: Rev. D; PackageVersion: Rev. G, 03/2012; PackageReference: S8-8; PackageDescription: 8-Pin Plastic Small Outline (Narrow .150 Inch), Body 4.9 x 3.9 mm, Pitch 1.27 mm; Supplier 1: Digi-Key; Supplier Part Number 1: LT1118CS8#TRPBF-ND; Supplier 2: Newark; Supplier Part Number 2: 57M1851; Number of Outputs: 1; Packing: Tape and Reel; RoHS: TRUE; Shutdown Current(uA): 1; Mounting Technology: Surface Mount; ComponentLink1Description: Manufacturer URL; ComponentLink1URL: http://www.linear.com/; ComponentLink2Description: Datasheet; ComponentLink2URL: http://cds.linear.com/docs/en/datasheet/1118fd.pdf; ComponentLink3Description: Package Specification; ComponentLink3URL: http://cds.linear.com/docs/en/packaging/05081610_G_SO8.pdf
footprint LT-S8-8_N (SOIC, 8-Leads, Body 4.9x3.9mm, Pitch 1.27mm, IPC Medium Density)
footprint LT-S8-8_L (SOIC, 8-Leads, Body 4.9x3.9mm, Pitch 1.27mm, IPC High Density)
footprint LT-S8-8_M (SOIC, 8-Leads, Body 4.9x3.9mm, Pitch 1.27mm, IPC Low Density)
pins: 1 GND (power) "Ground Pin. The multiple GND pins on the SO-8  package are internally connected, but lowest load regulation  errors will result if these pins are tightly connected on the printed circuit board. This will also aid heat (See Datasheet)", 2 NC, 3 EN (in) "TTL/CMOS Logic Input. A high level allows normal  operation. A low level reduces supply current to zero. This  pin is internally connected to VIN on 3-lead ST packaged  devices.", 4 FB (in) "Feedback Pin. The feedback pin is used to program  the output voltage of the adjustable S8 part. The output  voltage range that can be achieved is 2.1V to 6.5V. The  output voltage is determined by the selection of feedback  (See Datasheet)", 5 IN (power) "Input Supply Pin. This pin should be decoupled with a 1uF or larger low ESR capacitor. The two IN pins on the SO-8 package must be directly connected on the printed  circuit board to prevent voltage drops between the two (See Datasheet)", 6 OUT (power) "Regulated Output Voltage. Output can source or sink current. Current limit for sourcing and sinking current is  provided to protect the device from fault conditons. The  output must have a low ESR output ?lter capacitor(See Datasheet)", 7 IN (power) "Input Supply Pin. This pin should be decoupled with a 1uF or larger low ESR capacitor. The two IN pins on the SO-8 package must be directly connected on the printed  circuit board to prevent voltage drops between the two (See Datasheet)", 8 GND (power) "Ground Pin. The multiple GND pins on the SO-8  package are internally connected, but lowest load regulation  errors will result if these pins are tightly connected on the  printed circuit board. This will also aid heat (See Datasheet)"

## LT1118CS8-2.5
designator U?
Low IQ, Low Dropout, 800 mA, Source and Sink Regulator, 3 to 15 V Vin, 2.5 V Vout, 8-pin SOIC (S8-8), 0 to 70 degC; Manufacturer: Linear Technology; PartNumber: LT1118CS8-2.5; Discrete Pass Element: no; Dropout Voltage(V): 1; Iout(mA): 800; Isupply(mA): 0.6; Output Voltage: 2.5 V; PSRR(dB): 80; Vin Max(V): 15; Vin Min(V): 3; DatasheetVersion: Rev. D; PackageVersion: Rev. G, 03/2012; PackageReference: S8-8; PackageDescription: 8-Pin Plastic Small Outline (Narrow .150 Inch), Body 4.9 x 3.9 mm, Pitch 1.27 mm; Supplier 1: Digi-Key; Supplier Part Number 1: LT1118CS8-2.5-ND; Number of Outputs: 1; RoHS: FALSE; Shutdown Current(uA): 1; Mounting Technology: Surface Mount; ComponentLink1Description: Manufacturer URL; ComponentLink1URL: http://www.linear.com/; ComponentLink2Description: Datasheet; ComponentLink2URL: http://cds.linear.com/docs/en/datasheet/1118fd.pdf; ComponentLink3Description: Package Specification; ComponentLink3URL: http://cds.linear.com/docs/en/packaging/05081610_G_SO8.pdf
footprint LT-S8-8_N (SOIC, 8-Leads, Body 4.9x3.9mm, Pitch 1.27mm, IPC Medium Density)
footprint LT-S8-8_L (SOIC, 8-Leads, Body 4.9x3.9mm, Pitch 1.27mm, IPC High Density)
footprint LT-S8-8_M (SOIC, 8-Leads, Body 4.9x3.9mm, Pitch 1.27mm, IPC Low Density)
pins: 1 IN (power) "Input Supply Pin. This pin should be decoupled with a 1uF or larger low ESR capacitor. The two IN pins on the SO-8 package must be directly connected on the printed circuit board to prevent voltage drops between the two (See Datasheet)", 2 OUT (power) "Regulated Output Voltage. Output can source or sink current. Current limit for sourcing and sinking current is provided to protect the device from fault conditons. The output must have a low ESR output fi lter capacitor. (See Datasheet)", 3 GND (power) "Ground Pin. The multiple GND pins on the SO-8 package are internally connected, but lowest load regulation errors will result if these pins are tightly connected on the printed circuit board. This will also aid heat (See Datasheet)", 4 IN (power) "Input Supply Pin. This pin should be decoupled with a 1uF or larger low ESR capacitor. The two IN pins on the SO-8 package must be directly connected on the printed circuit board to prevent voltage drops between the two (See Datasheet)", 5 NC, 6 GND (power) "Ground Pin. The multiple GND pins on the SO-8 package are internally connected, but lowest load regulation errors will result if these pins are tightly connected on the printed circuit board. This will also aid heat (See Datasheet)", 7 GND (power) "Ground Pin. The multiple GND pins on the SO-8 package are internally connected, but lowest load regulation errors will result if these pins are tightly connected on the printed circuit board. This will also aid heat (See Datasheet)", 8 EN (in) "TTL/CMOS Logic Input. A high level allows normal operation. A low level reduces supply current to zero. This pin is internally connected to VIN on 3-lead ST packaged devices."

## LT1118CS8-2.5#PBF
designator U?
Low IQ, Low Dropout, 800 mA, Source and Sink Regulator, 3 to 15 V Vin, 2.5 V Vout, 8-pin SOIC (S8-8), 0 to 70 degC, Pb-Free; Manufacturer: Linear Technology; PartNumber: LT1118CS8-2.5#PBF; Discrete Pass Element: no; Dropout Voltage(V): 1; Iout(mA): 800; Isupply(mA): 0.6; Output Voltage: 2.5 V; PSRR(dB): 80; Vin Max(V): 15; Vin Min(V): 3; DatasheetVersion: Rev. D; PackageVersion: Rev. G, 03/2012; PackageReference: S8-8; PackageDescription: 8-Pin Plastic Small Outline (Narrow .150 Inch), Body 4.9 x 3.9 mm, Pitch 1.27 mm; Supplier 1: Digi-Key; Supplier Part Number 1: LT1118CS8-2.5#PBF-ND; Supplier 2: Farnell; Supplier Part Number 2: 2295199; Supplier 3: Newark; Supplier Part Number 3: 57M1838; Number of Outputs: 1; RoHS: TRUE; Shutdown Current(uA): 1; Mounting Technology: Surface Mount; ComponentLink1Description: Manufacturer URL; ComponentLink1URL: http://www.linear.com/; ComponentLink2Description: Datasheet; ComponentLink2URL: http://cds.linear.com/docs/en/datasheet/1118fd.pdf; ComponentLink3Description: Package Specification; ComponentLink3URL: http://cds.linear.com/docs/en/packaging/05081610_G_SO8.pdf
footprint LT-S8-8_N (SOIC, 8-Leads, Body 4.9x3.9mm, Pitch 1.27mm, IPC Medium Density)
footprint LT-S8-8_L (SOIC, 8-Leads, Body 4.9x3.9mm, Pitch 1.27mm, IPC High Density)
footprint LT-S8-8_M (SOIC, 8-Leads, Body 4.9x3.9mm, Pitch 1.27mm, IPC Low Density)
pins: 1 IN (power) "Input Supply Pin. This pin should be decoupled with a 1uF or larger low ESR capacitor. The two IN pins on the SO-8 package must be directly connected on the printed circuit board to prevent voltage drops between the two (See Datasheet)", 2 OUT (power) "Regulated Output Voltage. Output can source or sink current. Current limit for sourcing and sinking current is provided to protect the device from fault conditons. The output must have a low ESR output fi lter capacitor. (See Datasheet)", 3 GND (power) "Ground Pin. The multiple GND pins on the SO-8 package are internally connected, but lowest load regulation errors will result if these pins are tightly connected on the printed circuit board. This will also aid heat (See Datasheet)", 4 IN (power) "Input Supply Pin. This pin should be decoupled with a 1uF or larger low ESR capacitor. The two IN pins on the SO-8 package must be directly connected on the printed circuit board to prevent voltage drops between the two (See Datasheet)", 5 NC, 6 GND (power) "Ground Pin. The multiple GND pins on the SO-8 package are internally connected, but lowest load regulation errors will result if these pins are tightly connected on the printed circuit board. This will also aid heat (See Datasheet)", 7 GND (power) "Ground Pin. The multiple GND pins on the SO-8 package are internally connected, but lowest load regulation errors will result if these pins are tightly connected on the printed circuit board. This will also aid heat (See Datasheet)", 8 EN (in) "TTL/CMOS Logic Input. A high level allows normal operation. A low level reduces supply current to zero. This pin is internally connected to VIN on 3-lead ST packaged devices."